# Altium schematic symbol library ttl_clock.SchLib: 16 symbols
Pins are listed as number, name and electrical type; pins without a type are passive.

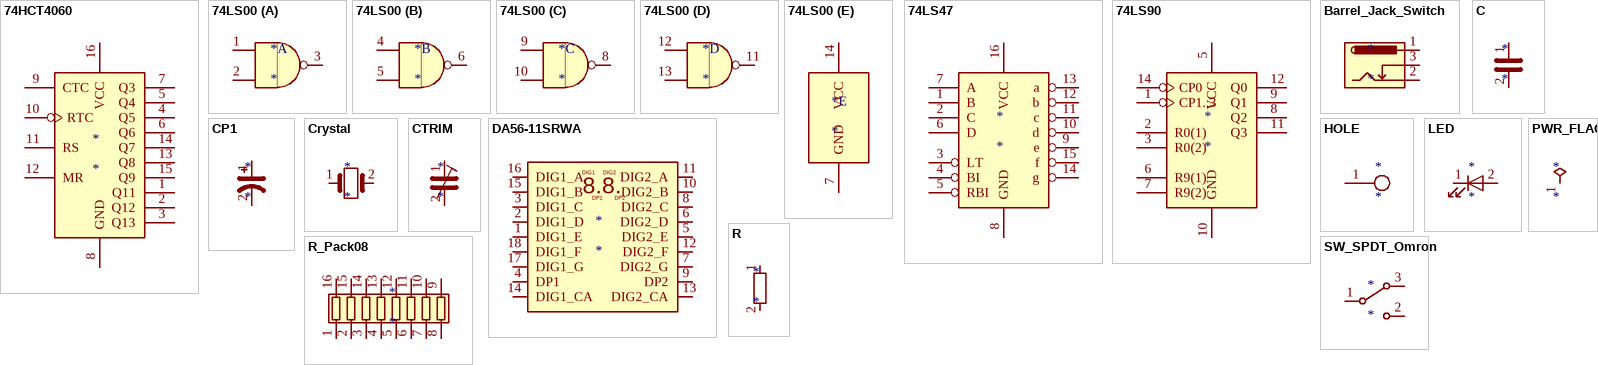
[diagram p0: symbols 74HCT4060 to SW_SPDT_Omron]

## 74HCT4060
designator *
footprint DIP794W53P254L1930H508Q16N
pins: 1 Q11, 2 Q12, 3 Q13, 4 Q5, 5 Q4, 6 Q6, 7 Q3, 8 GND, 9 CTC, 10 RTC, 11 RS, 12 MR, 13 Q8, 14 Q7, 15 Q9, 16 VCC

## 74LS00
designator *
footprint DIP794W53P254L1930H508Q14N
part A pins: 1, 2, 3
part B pins: 4, 5, 6
part C pins: 8, 9, 10
part D pins: 11, 12, 13
part E pins: 7 GND, 14 VCC
1 alternate drawing of the same symbol

## 74LS47
designator *
footprint DIP794W53P254L1930H508Q16N
pins: 1 B, 2 C, 3 LT, 4 BI, 5 RBI, 6 D, 7 A, 8 GND, 9 e, 10 d, 11 c, 12 b, 13 a, 14 g, 15 f, 16 VCC

## 74LS90
designator *
footprint DIP794W53P254L1930H508Q14N
pins: 1 CP1..3, 2 R0(1), 3 R0(2), 5 VCC, 6 R9(1), 7 R9(2), 8 Q2, 9 Q1, 10 GND, 11 Q3, 12 Q0, 14 CP0

## Barrel_Jack_Switch
designator *
footprint KLDX0202A
pins: 1, 2, 3

## C
designator *
footprint CAPPA1420W55L380D260
pins: 1, 2

## CP1
designator *
footprint CAPPRD250W52D630H1250
pins: 1, 2

## Crystal
designator *
footprint XTAL_AB26T-32.768KHZ
pins: 1, 2

## CTRIM
designator *
footprint JZ300
pins: 1, 2

## DA56-11SRWA
designator *
footprint DIPS1524W50P254L2500H825Q18N
pins: 1 DIG1_E, 2 DIG1_D, 3 DIG1_C, 4 DP1, 5 DIG2_E, 6 DIG2_D, 7 DIG2_G, 8 DIG2_C, 9 DP2, 10 DIG2_B, 11 DIG2_A, 12 DIG2_F, 13 DIG2_CA, 14 DIG1_CA, 15 DIG1_B, 16 DIG1_A, 17 DIG1_G, 18 DIG1_F
text: DIG1; DIG2; 8.8.

## HOLE
designator *
footprint PCBComponent_1
pins: 1

## LED
designator *
footprint LED_SSL-LX4673GD-LA20
pins: 1 K, 2 A

## PWR_FLAG
designator *  (graphical)
pins: 1 pwr

## R
designator *
footprint RESAD2870W80L1190D420
pins: 1, 2

## R_Pack08
designator *
footprint DIP787W49P254L2197H469Q16N
pins: 1 R1.1, 2 R2.1, 3 R3.1, 4 R4.1, 5 R5.1, 6 R6.1, 7 R7.1, 8 R8.1, 9 R8.2, 10 R7.2, 11 R6.2, 12 R5.2, 13 R4.2, 14 R3.2, 15 R2.2, 16 R1.2

## SW_SPDT_Omron
designator *
footprint SS0750301F040P1A
pins: 1 B, 2 C, 3 A